# Altium footprint library R_C_L_D.PcbLib: 51 footprints (part 4 of 4)
Each footprint in its own frame and in the unit in brackets; x right, y up, seen from the top. Pads: shape width x height; smd on the part's side, far side on the other; paste and mask are expansions set on the pad; w line width, h text height; cw(c..) or ccw(c..) is an arc to the next point about the centre after c.
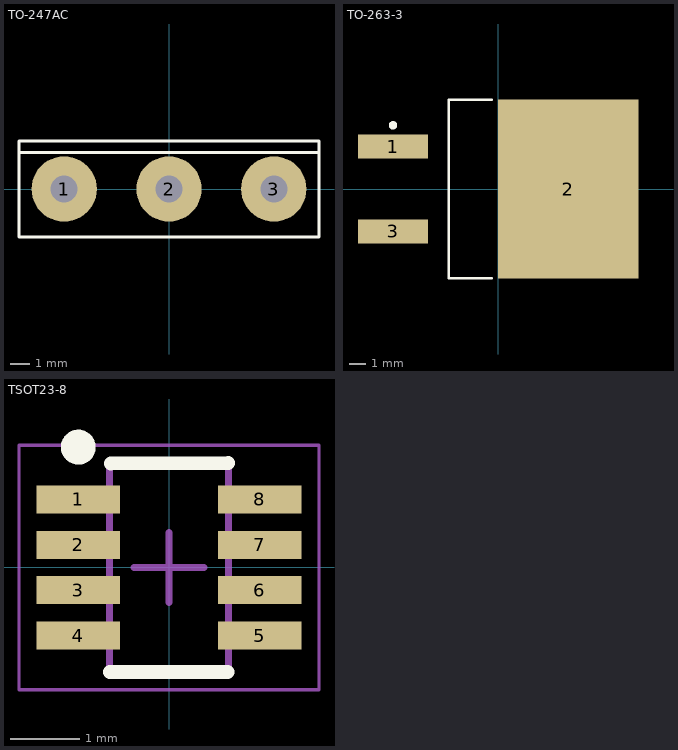
[diagram p3: the footprints below, top view; thin cyan lines are the x and y axes]

## TO-247AC [mm]
height 24
pads (3):
  round 3.4 hole 1.4: 1(-5.45,0) 2(0,0) 3(5.45,0)
Top Overlay:
  lines w0.152: -7.8,1.905 7.8,1.905 ; -7.8,-2.5 -7.8,2.5 7.8,2.5 7.8,-2.5 -7.8,-2.5

## TO-263-3 [mm] "TO-263-3, 3-Pads"
height 4.83
pads (3):
  rect 4.2x1.45 smd: 1(-6.3,2.54) 3(-6.3,-2.54)
  rect 8.4x10.75 smd: 2(4.2,0)
Top Overlay:
  circle w0.25: c-6.3,3.815 r0.125
  lines w0.152: -0.4,-5.35 -2.95,-5.35 -2.95,5.35 -0.4,5.35

## TSOT23-8 [mm] "TSOT23-8, 8-Leads, Body 2.90x1.60mm, Pitch 0.65mm"
height 1
pads (8):
  rect 1.2x0.4 smd: 1(-1.3,0.975) 2(-1.3,0.325) 3(-1.3,-0.325) 4(-1.3,-0.975) 5(1.3,-0.975) 6(1.3,-0.325) 7(1.3,0.325) 8(1.3,0.975)
Top Overlay:
  circle w0.25: c-1.3,1.725 r0.125
  lines w0.2: -0.848,-1.497 0.836,-1.497 ; -0.835,1.492 0.849,1.499
Mechanical 13:
  lines w0.1: -0.85,-1.5 0.85,-1.5 0.85,1.5 -0.85,1.5 -0.85,-1.5
Mechanical 15:
  lines w0.05: -2.15,-1.75 2.15,-1.75 2.15,1.75 -2.15,1.75 -2.15,-1.75
  lines w0.1: -0.5,0 0.5,0 ; 0,-0.5 0,0.5
3D body: height 1, standoff 0.25, extent -0.85,-1.5 0.85,1.5